# EAGLE library part HY_RF_BLE_RN4020 (library lieBtrau)
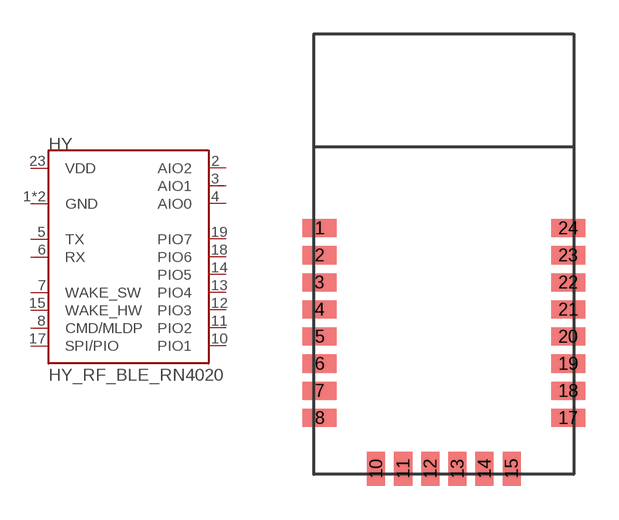
[diagram p8: symbol with the pads of HY_BLE_RN4020; footprint HY_BLE_RN4020]

Designator prefix HY

## HY_RF_BLE_RN4020 (COST: 8.57; ORDERCODE: RN4020-V/RM123-ND; VALUE: RN4020)  [HY_BLE_RN4020]
1  GND
2  AIO2
3  AIO1
4  AIO0
5  TX
6  RX
7  WAKE_SW
8  CMD/MLDP
10  PIO1
11  PIO2
12  PIO3
13  PIO4
14  PIO5
15  WAKE_HW
17  SPI/PIO
18  PIO6
19  PIO7
23  VDD
24  GND

## Footprint HY_BLE_RN4020 (pad centres in mm)
smd 1.5 x 0.8: 1 0.25,10.9; 2 0.25,9.7; 3 0.25,8.5; 4 0.25,7.3; 5 0.25,6.1; 6 0.25,4.9; 7 0.25,3.7; 8 0.25,2.5; 17 11.25,2.5; 18 11.25,3.7; 19 11.25,4.9; 20 11.25,6.1; 21 11.25,7.3; 22 11.25,8.5; 23 11.25,9.7; 24 11.25,10.9
smd 0.8 x 1.5: 10 2.75,0.25; 11 3.95,0.25; 12 5.15,0.25; 13 6.35,0.25; 14 7.55,0.25; 15 8.75,0.25